# EAGLE library part ZX62-B-5PA(33) (library SamacSys_Parts)
USB Connectors MICRO B RECEPT RA SMT BTTM MNT Source: Datasheet <https://componentsearchengine.com/Datasheets/1/ZX62-B-5PA(33).pdf>
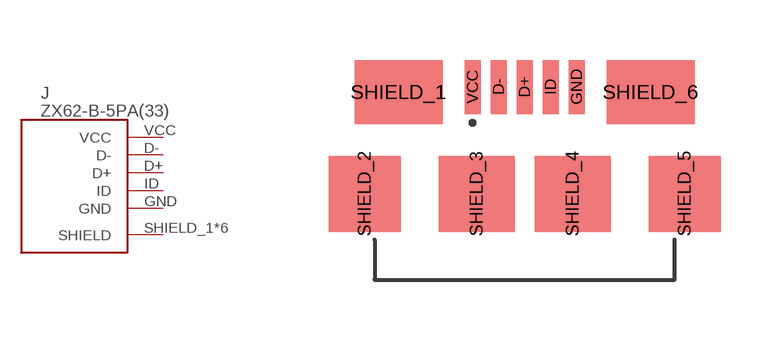
[diagram p9: symbol with the pads of ZX62B5PA33; footprint ZX62B5PA33]

Designator prefix J

## ZX62-B-5PA(33) (DESCRIPTION: USB Connectors MICRO B RECEPT RA SMT BTTM MNT; HEIGHT: 2.8mm; MANUFACTURER_NAME: Hirose; MANUFACTURER_PART_NUMBER: ZX62-B-5PA(33); MOUSER_PART_NUMBER: 798-ZX62-B-5PA33; MOUSER_PRICE-STOCK: https://www.mouser.com/Search/Refine.aspx?Keyword=798-ZX62-B-5PA33)  [ZX62B5PA33]
D+  D+
D-  D-
GND  GND
ID  ID
SHIELD_1  SHIELD
SHIELD_2  SHIELD
SHIELD_3  SHIELD
SHIELD_4  SHIELD
SHIELD_5  SHIELD
SHIELD_6  SHIELD
VCC  VCC

## Footprint ZX62B5PA33 (pad centres in mm)
ZX62-B-5PA(33)
smd 0.4 x 1.35: D+ 0,1.95; D- -0.65,1.95; GND 1.3,1.95; ID 0.65,1.95; VCC -1.3,1.95
smd 2.2 x 1.6: SHIELD_1 -3.15,1.825; SHIELD_6 3.15,1.825
smd 1.8 x 1.9: SHIELD_2 -4,-0.725; SHIELD_5 4,-0.725
smd 1.9 x 1.9: SHIELD_3 -1.2,-0.725; SHIELD_4 1.2,-0.725